# Altium schematic symbol library CrystalOscillator.SchLib: 5 symbols
Pins are listed as number, name and electrical type; pins without a type are passive.

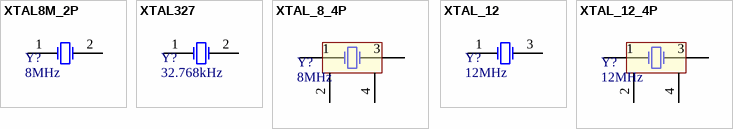
[diagram p0: symbols XTAL8M_2P to XTAL_12_4P]

## XTAL8M_2P
designator Y?, comment 8MHz
Oscillator CRYSTAL 8.0 MHz 16 pF SMD; Anunda_Code: M0579; ES P/N:: 0900-0050-1; MFG P/N: E49B8E000000KE; MFG: Hosonic Technology; LatestRevisionDate: 17-Jul-2002; LatestRevisionNote: Re-released for DXP Platform.; PackageReference: R38; Value: 8MHz
footprint SMD_49S (Footprint xtal)
pins: 1 OSC1, 2 OSC2

## XTAL327
designator Y?, comment 32.768kHz
Oscillator CRYSTAL 32.768 KHz 12.5 pF SMD; Anunda_Code: M1185; MFG: Citizen Finedevice Co Ltd; MFG P/N: CM315H32768EZFT; LatestRevisionDate: 17-Jul-2002; LatestRevisionNote: Re-released for DXP Platform.; PackageReference: R38; Value: 32.768kHz
footprint XTAL_3.2x1.5mm (Abracon 32.768 kHz XTAL SMD)
pins: 1 OSC1, 2 OSC2

## XTAL_8_4P
designator Y?, comment 8MHz
Oscillator Crystal 8.000 MHz 10 PF SMD; Anunda_Code: M2050; MFG: Raltron Electronics; MFG P/N: RH100-8.000-10-1010-EXT-TR; LatestRevisionDate: 17-Jul-2002; LatestRevisionNote: Re-released for DXP Platform.; PackageReference: R38; Value: 8MHz
footprint XTAL_3.2X2.5mm
pins: 1 OSC1, 2 GND, 3 OSC2, 4 GND

## XTAL_12
designator Y?, comment 12MHz
Oscillator Crystal 12.000 MHz 8 PF SMD; Anunda_Code: M1183; MFG: NDK America Inc.; MFG P/N: NX3225SA-12.000M-STD-CSR-1; LatestRevisionDate: 17-Jul-2002; LatestRevisionNote: Re-released for DXP Platform.; PackageReference: R38; Value: 12MHz
footprint XTAL_3.2X2.5mm
pins: 1 OSC1, 3 OSC2

## XTAL_12_4P
designator Y?, comment 12MHz
Oscillator Crystal 12.000 MHz 8 PF SMD; Anunda_Code: M1183; MFG: NDK America Inc.; MFG P/N: NX3225SA-12.000M-STD-CSR-1; LatestRevisionDate: 17-Jul-2002; LatestRevisionNote: Re-released for DXP Platform.; PackageReference: R38; Value: 12MHz
footprint XTAL_3.2X2.5mm
pins: 1 OSC1, 2 GND, 3 OSC2, 4 GND